# EAGLE library part SI1563 (library bnahill)
Complementary 20-V (D-S) Low-Threshold MOSFET
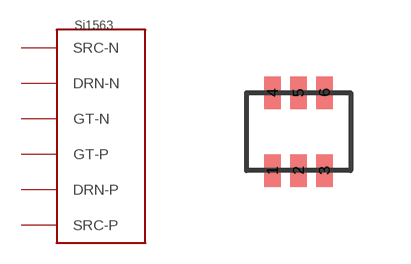
[diagram p1: symbol with the pads of SC70-6; footprint SC70-6]

Designator prefix -

## SI1563  [SC70-6]
1  SRC-N
2  GT-N
3  DRN-P
4  SRC-P
5  GT-P
6  DRN-N

## Footprint SC70-6 (pad centres in mm)
smd 0.406 x 0.813: 1 0.65,-1.95; 2 1.3,-1.95; 3 1.95,-1.95; 4 0.65,0; 5 1.3,0; 6 1.95,0